# Altium footprint library G103 Rev4.2E.PcbLib: 64 footprints (part 2 of 4)
Each footprint in its own frame and in the unit in brackets; x right, y up, seen from the top. Pads: shape width x height; smd on the part's side, far side on the other; paste and mask are expansions set on the pad; w line width, h text height; cw(c..) or ccw(c..) is an arc to the next point about the centre after c.
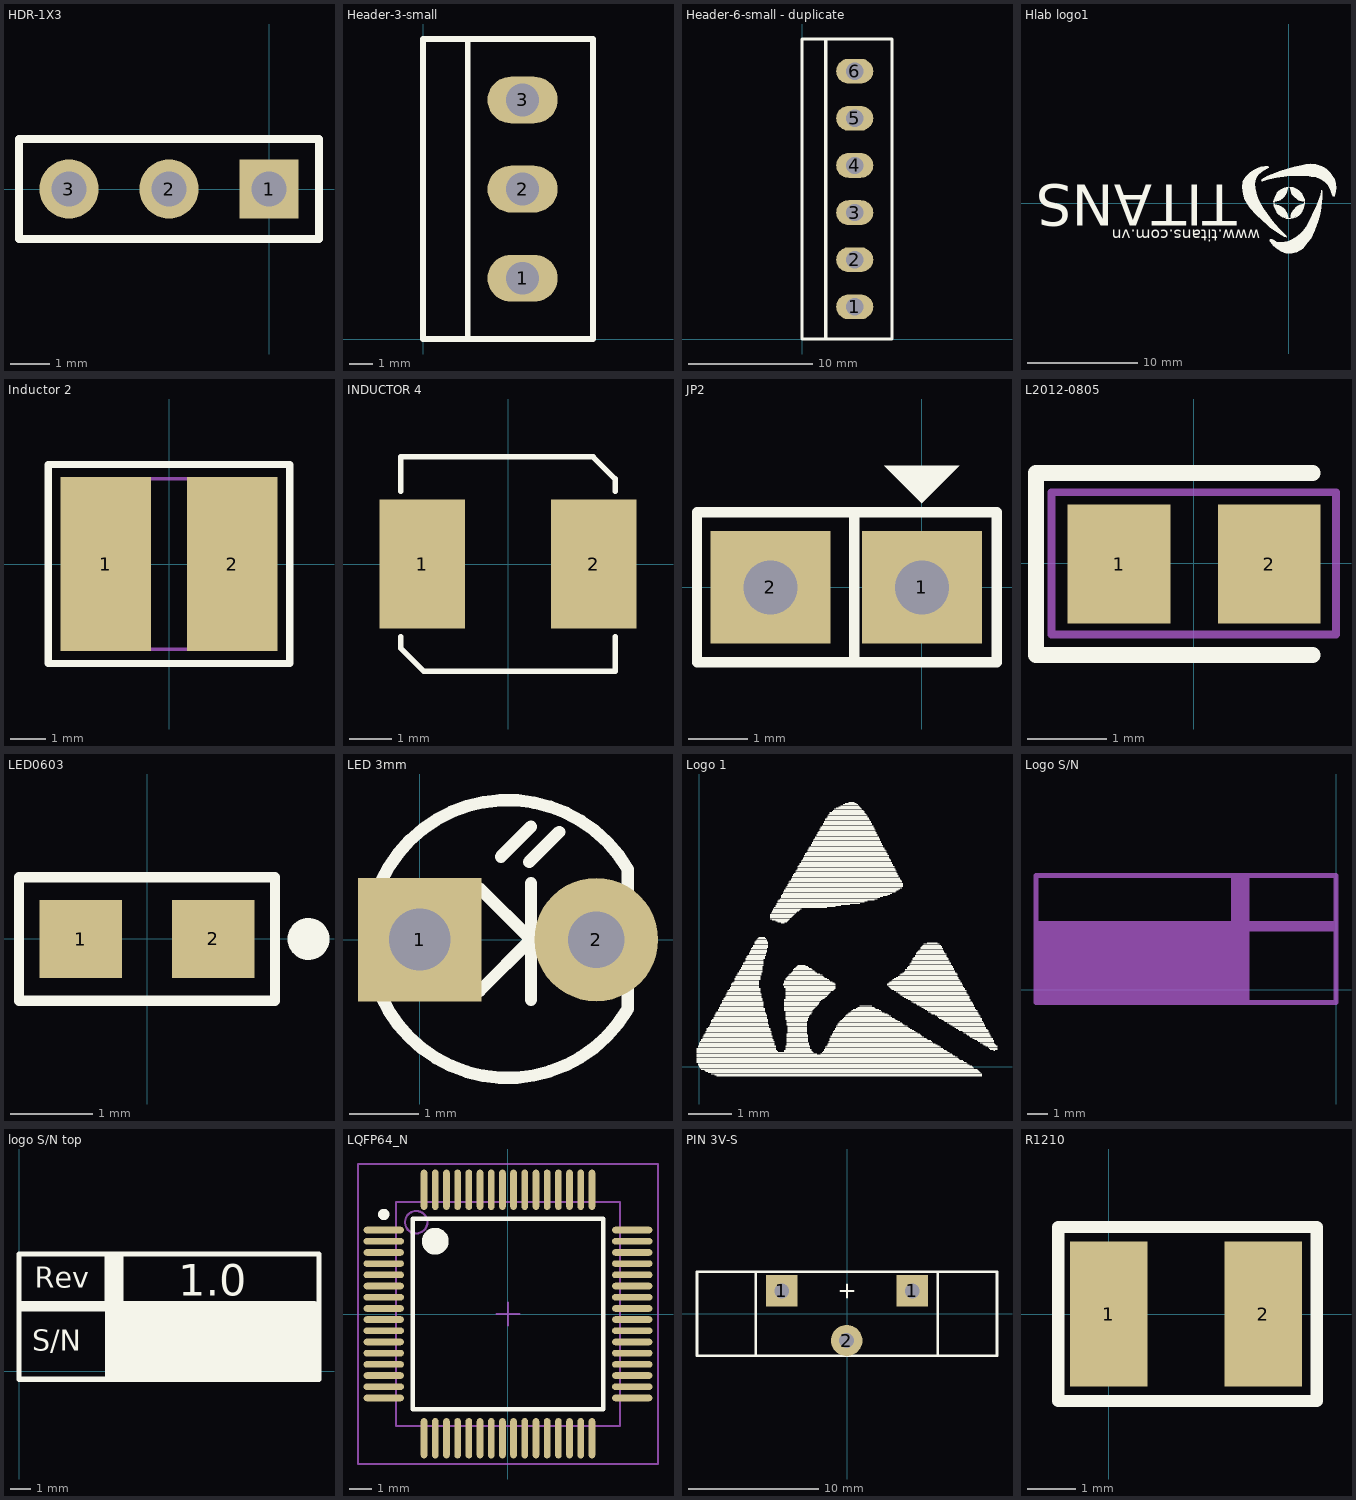
[diagram p1: the footprints below, top view; thin cyan lines are the x and y axes]

## HDR-1X3 [mm] "Connector; Header; 3 Position"
height 0.005
pads (3):
  rect 1.5x1.5 hole 0.9: 1(0,0)
  round 1.5 hole 0.9: 2(-2.54,0) 3(-5.08,0)
Top Overlay:
  lines w0.2: 1.27,-1.27 1.27,1.27 ; 1.27,-1.27 -6.35,-1.27 -6.35,1.27 1.27,1.27 ; 1.27,-1.27 1.27,1.27
3D body "User Library-PLS-1.step": height 8.44, standoff -3, extent -6.35,-1.27 -3.81,1.27
3D body "User Library-PLS-1.step": height 8.44, standoff -3, extent -3.81,-1.27 -1.27,1.27
3D body "User Library-PLS-1.step": height 8.44, standoff -3, extent -1.27,-1.27 1.27,1.27

## Header-3-small [mm] "Header-3, pitch 3.81mm"
height 0.005
pads (3):
  oval 3x2 hole 1.4: 1(4.25,2.6) 2(4.25,6.41) 3(4.25,10.22)
Top Overlay:
  lines w0.254: 1.905,0.127 1.905,12.7 ; 0,0 7.25,0 7.25,12.827 0,12.827 0,0
3D body "header3small.STEP": height 9.45, standoff -3.15, extent -0.011,0 7.239,12.82

## Header-6-small - duplicate [mm] "Header-6, pitch 3.81mm"
height 0.005
pads (6):
  oval 3x2 hole 1.4: 1(4.25,2.6) 2(4.25,6.41) 3(4.25,10.22) 4(4.25,14.03) 5(4.25,17.84) 6(4.25,21.65)
Top Overlay:
  lines w0.254: 1.905,0.127 1.905,24.25 ; 0,0 0,24.25 7.25,24.25 7.25,0 0,0
3D body "User Library-1803468.STEP": height 9.2, standoff -3.4, extent -0.011,0.194 7.239,24.444

## Hlab logo1 [mm] "Elab logo"
height 0.005
Top Overlay:
  drawing of 8 lines, arcs and shapes, not listed
  text "www.titans.com.vn" at -2.591,-2.388 h1.02
  text "TITANS" at -4.724,2.87 h6.35

## Inductor 2 [mm] "Precision Wire Wound Inductor, 2-Leads, Body 4.80x4.80mm, IPC Medium Density"
height 2.29
pads (2):
  rect 2.55x4.9 smd: 1(-1.775,0) 2(1.775,0)
Top Overlay:
  lines w0.203: -3.4,-2.8 -3.4,2.8 3.4,2.8 3.4,-2.8 -3.4,-2.8
Mechanical 13:
  lines w0.1: -2.4,-2.4 -2.4,2.4 2.4,2.4 2.4,-2.4 -2.4,-2.4
3D body: height 2.29, standoff 0, extent -2.4,-2.4 2.401,2.401

## INDUCTOR 4 [mm] "Body  4.8x4.8x2.8mm"
height 0.005
pads (2):
  rect 2x3 smd: 1(-2,0) 2(2,0)
Top Overlay:
  lines w0.127: -2.5,-1.7 -2.5,-1.967 -1.967,-2.5 2.5,-2.5 2.5,-1.7 ; -2.5,1.7 -2.5,2.5 1.989,2.5 2.5,1.989 2.5,1.7
3D body: height 3, standoff 0, extent -2.001,-2.001 2.001,2.001

## JP2 [mil]
height 0.2
pads (2):
  rect 80x75 hole 36: 1(0,0) 2(-101,0)
Top Overlay:
  region: 0,56 25,81 -25,81
  lines w7: -45,-49 -45,50 ; -150,-50 50,-50 50,50 -150,50 -150,-50
3D body "JP2.stp": height 323.44, standoff -117.51, extent -148.03,-48.42 48.03,50

## L2012-0805 [mm] "Inductor Chip 0805 package"
height 0.005
pads (2):
  rect 1.3x1.5 smd: 1(-0.945,-0.007) 2(0.955,-0.007)
Top Overlay:
  lines w0.2: 1.505,-1.157 -1.995,-1.157 -1.995,1.143 1.505,1.143
Mechanical 13:
  lines w0.1: -1.8,-0.9 1.8,-0.9 1.8,0.9 -1.8,0.9 -1.8,-0.9
  text ".Designator" at -1.575,-0.635 h2.03
3D body: height 0.76, standoff 0, extent -0.381,-0.572 0.381,0.572
3D body: height 0.79, standoff 0, extent 0.381,-0.584 0.889,0.584
3D body: height 0.79, standoff 0, extent -0.889,-0.584 -0.381,0.584

## LED0603 [mm]
height 0.005
pads (2):
  rect 1x0.95 smd: 1(-0.8,0) 2(0.8,0)
Top Overlay:
  circle w0.254: c1.956,0 r0.127
  lines w0.127: -1.55,-0.75 -1.55,0.75 1.55,0.75 1.55,-0.75 -1.55,-0.75
3D body "User Library-LTST-C190TBKT.STEP": height 0.9, standoff 0, extent -0.85,-0.45 0.85,0.45

## LED 3mm [mil] "LED 2 PIN, 3ly Only colour"
height 300
pads (2):
  rect 70x70 hole 35: 1(0,0)
  round 70 hole 32: 2(100,0)
Top Overlay:
  lines w7: 34,-29 63,0 34,29 ; 46,47 63,64 ; 62,44 79,61 ; 63,-34 63,32 ; 117.92,-39.35 117.92,39.84
  lines w7.01: 117.57,-39.74 cw(c49.8,0.35) 117.72,40.19
3D body "User Library-LED 3 MM_Red.STEP": height 205.33, standoff -117.51, extent -29.21,-75.21 108.58,82.13

## Logo 1 [mm]
height 0.005
Top Overlay:
  drawing of 457 lines, arcs and shapes, not listed

## Logo S/N [mm] "Logo S/N"
height 0.005
Bottom Overlay:
  rectangle: -14.981,-0.635 -4.313,3.073
  rectangle: -5.233,3.429 -4.319,5.715
  lines w0.254: -14.986,-0.635 -14.986,5.715 0,5.715 0,-0.635 -14.986,-0.635
  lines w0.508: -14.859,3.175 -0.127,3.175
  text "4.2" at -8.763,3.81 h1.52
  text "Rev" at -0.889,3.81 h1.02
  text "S/N" at -0.889,0.635 h1.02

## logo S/N top [mm]
height 0.005
Top Overlay:
  rectangle: 4.191,-0.381 14.605,3.073
  rectangle: 4.166,3.429 5.081,5.715
  lines w0.254: 0,-0.381 14.605,-0.381 14.605,5.715 0,5.715 0,-0.381
  lines w0.508: 0.127,3.175 14.351,3.175
  text "Rev" at 0.762,4.064 h1.02
  text "S/N" at 0.635,1.016 h1.02
  text "1.0" at 7.747,3.683 h1.52

## LQFP64_N [mm] "Thin QFP, 64-Leads, Body 10x10mm, Pitch 0.5mm, IPC Medium Density"
height 1.6
pads (64):
  oval 1.8x0.3 smd: 1(-5.55,3.75) 2(-5.55,3.25) 3(-5.55,2.75) 4(-5.55,2.25) 5(-5.55,1.75) 6(-5.55,1.25) 7(-5.55,0.75) 8(-5.55,0.25) 9(-5.55,-0.25) 10(-5.55,-0.75) 11(-5.55,-1.25) 12(-5.55,-1.75) 13(-5.55,-2.25) 14(-5.55,-2.75) 15(-5.55,-3.25) 16(-5.55,-3.75) 33(5.55,-3.75) 34(5.55,-3.25) 35(5.55,-2.75) 36(5.55,-2.25) 37(5.55,-1.75) 38(5.55,-1.25) 39(5.55,-0.75) 40(5.55,-0.25) 41(5.55,0.25) 42(5.55,0.75) 43(5.55,1.25) 44(5.55,1.75) 45(5.55,2.25) 46(5.55,2.75) 47(5.55,3.25) 48(5.55,3.75)
  oval 0.3x1.8 smd: 17(-3.75,-5.55) 18(-3.25,-5.55) 19(-2.75,-5.55) 20(-2.25,-5.55) 21(-1.75,-5.55) 22(-1.25,-5.55) 23(-0.75,-5.55) 24(-0.25,-5.55) 25(0.25,-5.55) 26(0.75,-5.55) 27(1.25,-5.55) 28(1.75,-5.55) 29(2.25,-5.55) 30(2.75,-5.55) 31(3.25,-5.55) 32(3.75,-5.55) 49(3.75,5.55) 50(3.25,5.55) 51(2.75,5.55) 52(2.25,5.55) 53(1.75,5.55) 54(1.25,5.55) 55(0.75,5.55) 56(0.25,5.55) 57(-0.25,5.55) 58(-0.75,5.55) 59(-1.25,5.55) 60(-1.75,5.55) 61(-2.25,5.55) 62(-2.75,5.55) 63(-3.25,5.55) 64(-3.75,5.55)
Top Overlay:
  circle w0.25: c-5.55,4.45 r0.125
  circle w0.6: c-3.25,3.25 r0.3
  lines w0.2: -4.25,-4.25 -4.25,4.25 4.25,4.25 4.25,-4.25 -4.25,-4.25
Mechanical 13:
  circle w0.1: c-4.1,4.1 r0.5
  lines w0.1: -5,-5 -5,5 5,5 5,-5 -5,-5
Mechanical 15:
  lines w0.1: -0.5,0 0.5,0 ; 0,-0.5 0,0.5 ; -6.7,-6.7 -6.7,6.7 6.7,6.7 6.7,-6.7 -6.7,-6.7
3D body "TQFP-G64.STEP": height 1, standoff 0, extent -5.8,-5.787 5.781,5.787

## PIN 3V-S [mil] "Socket PIN 3V"
height 0.2
pads (3):
  rect 95x95 hole 45: 1(-196.85,68.9) 1(196.85,68.9)
  round 95 hole 45: 2(-0.98,-80.71)
Top Overlay:
  lines w7: -19.68,68.9 19.68,68.9 ; 0,49.21 0,88.58
  lines w8: -275.2,-127 -275.2,127 ; 274.02,-127 274.02,127 ; -452.76,-127 452.76,-127 452.76,127 -452.76,127 -452.76,-127
3D body "User Library-CR2032 Battery Holder-Dip180.step": height 728.62, standoff -108, extent -454.64,-125.99 454.72,125.98

## R1210 [mm] "Chip Resistor; Body 3.2 x 2.6 mm (LxW typ)"
height 1.35
pads (2):
  rect 1.6x3 smd: 1(0,0) 2(3.2,0)
Top Overlay:
  lines w0.254: -1.041,-1.8 4.3,-1.8 4.3,1.8 -1.041,1.8 -1.041,-1.8
3D body: height 0.5, standoff 0, extent -0.2,-1.4 3.4,1.3
3D body: height 0.51, standoff 0, extent 2.54,-1.4 3.4,1.3
3D body: height 0.51, standoff 0, extent -0.4,-1.4 0.254,1.3